# Altium schematic symbol library pwr_switching_buck_lowEMI.SchLib: 14 symbols
Pins are listed as number, name and electrical type; pins without a type are passive.

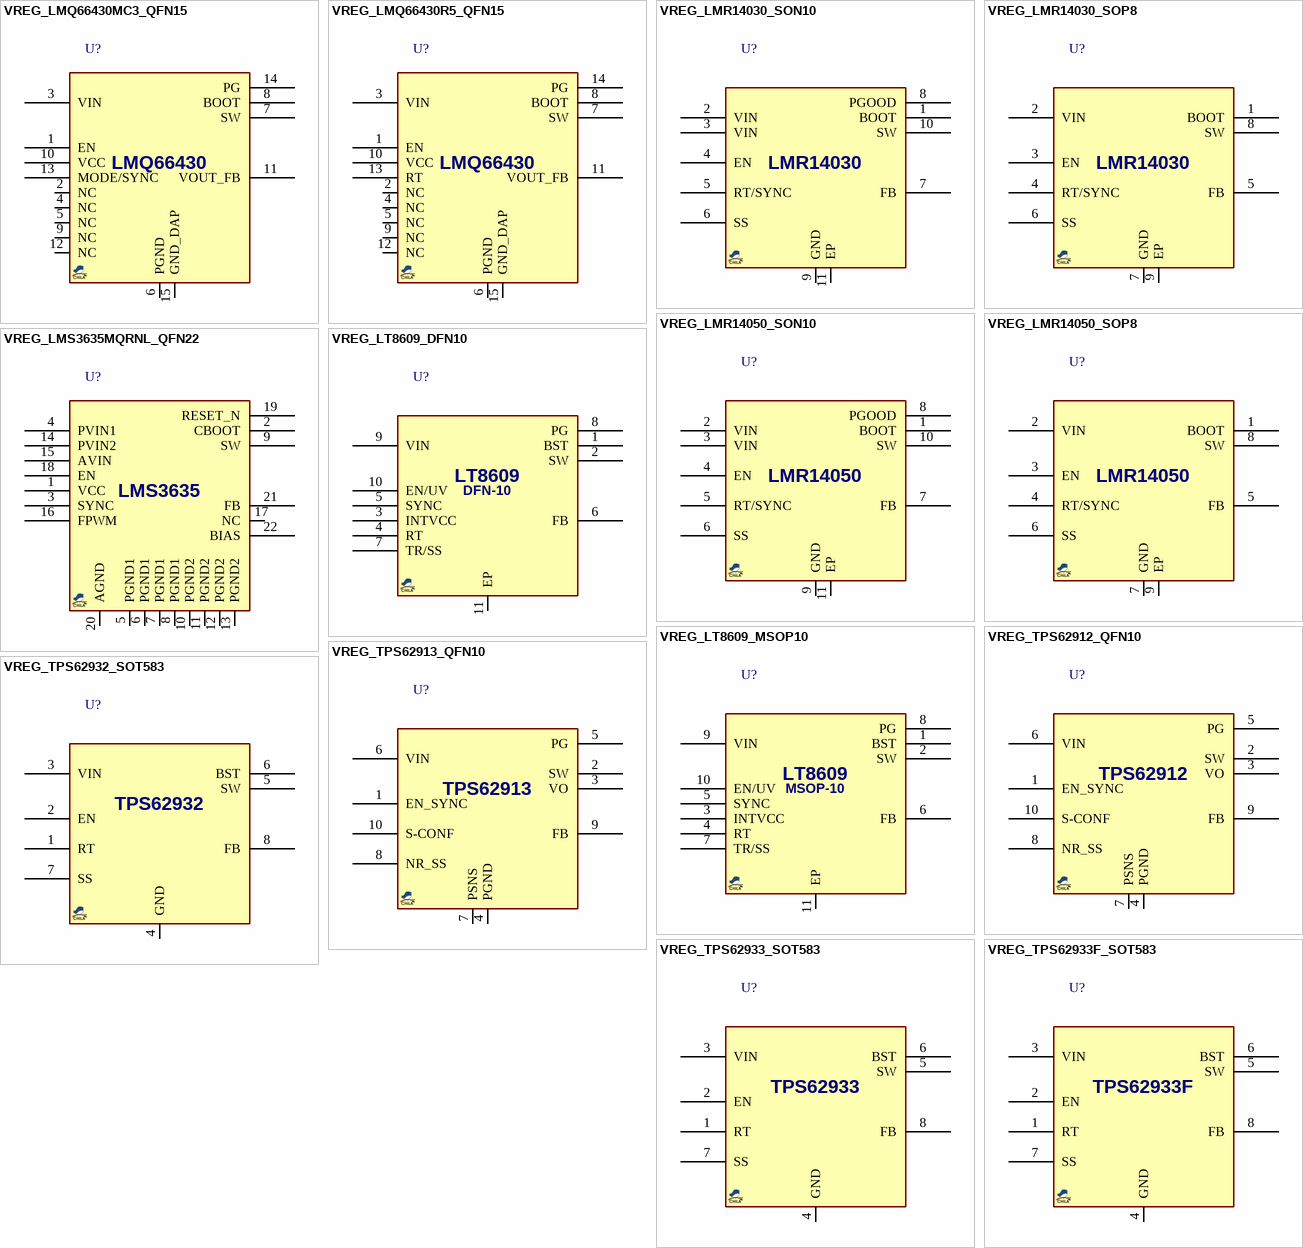
[diagram p0: symbols VREG_LMQ66430MC3_QFN15 to VREG_TPS62933F_SOT583]

## VREG_LMQ66430MC3_QFN15
designator U?, comment LMQ66430  (value not drawn)
REG, Switching, Buck, 3.6~36Vin, 3A, RXB-15; MANF: Texas Instruments; PARAM: 3A, 2MHz; PARAM2: 3.6~36VIN,1~18Vout; MANF_P#: LMQ66430MC3RXBRQ1; PRICE: 4$; ASSEMBLY: ASSEMBLY; VALUE: LMQ66430; PACKAGE: QFN-15 RXB
footprint QFN50_15_RXB (VQFN-FCRLF RXB, 2.6X2.6X1mm)
pins: 1 EN, 2 NC, 3 VIN, 4 NC, 5 NC, 6 PGND, 7 SW, 8 BOOT, 9 NC, 10 VCC, 11 VOUT_FB, 12 NC, 13 MODE/SYNC, 14 PG, 15 GND_DAP

## VREG_LMQ66430R5_QFN15
designator U?, comment LMQ66430  (value not drawn)
REG, Switching, Buck, 3.6~36Vin, 3A, RXB-15; MANF: Texas Instruments; PARAM: 3A, 0.2~2.2MHz; PARAM2: 3.6~36VIN,1~18Vout; MANF_P#: LMQ66430R5RXB; PRICE: 5$; ASSEMBLY: ASSEMBLY; VALUE: LMQ66430; PACKAGE: QFN-15 RXB
footprint QFN50_15_RXB (VQFN-FCRLF RXB, 2.6X2.6X1mm)
pins: 1 EN, 2 NC, 3 VIN, 4 NC, 5 NC, 6 PGND, 7 SW, 8 BOOT, 9 NC, 10 VCC, 11 VOUT_FB, 12 NC, 13 RT, 14 PG, 15 GND_DAP

## VREG_LMR14030_SON10
designator U?, comment LMR14030  (value not drawn)
REG, Switching, Buck, 4~40Vin, 3.5A, WSON-8; MANF: Texas Instruments; PARAM: 3.5A, 0.2~2.5MHz; PARAM2: 4~40VIN, 0.8~28Vout; MANF_P#: LMR14030SQDPR; PRICE: 0.6$; ASSEMBLY: ASSEMBLY; VALUE: LMR14030; PACKAGE: WSON-10
footprint SON80_10T_4040 (DPR WSON10, 10-Leads, 4x4mm, Pitch 0.80mm)
pins: 1 BOOT, 2 VIN, 3 VIN, 4 EN, 5 RT/SYNC, 6 SS, 7 FB, 8 PGOOD, 9 GND, 10 SW, 11 EP

## VREG_LMR14030_SOP8
designator U?, comment LMR14030  (value not drawn)
REG, Switching, Buck, 4~40Vin, 3.5A, HSOIC-8; MANF: Texas Instruments; PARAM: 3.5A, 0.2~2.5MHz; PARAM2: 4~40VIN, 0.8~28Vout; MANF_P#: LMR14030SDDA; PRICE: 0.6$; ASSEMBLY: ASSEMBLY; VALUE: LMR14030; PACKAGE: SOP-8 (HSOIC-8)
footprint SO_8T (SOP-8, 5x3.9mm body 1.27mm pitch, DDA, SO PowerPAD)
pins: 1 BOOT, 2 VIN, 3 EN, 4 RT/SYNC, 5 FB, 6 SS, 7 GND, 8 SW, 9 EP

## VREG_LMR14050_SON10
designator U?, comment LMR14050  (value not drawn)
REG, Switching, Buck, 4~40Vin, 5A, WSON-8; MANF: Texas Instruments; PARAM: 5A, 0.2~2.5MHz; PARAM2: 4~40VIN, 0.8~28Vout; MANF_P#: LMR14050SQDPR; PRICE: 0.6$; ASSEMBLY: ASSEMBLY; VALUE: LMR14050; PACKAGE: WSON-10
footprint SON80_10T_4040 (DPR WSON10, 10-Leads, 4x4mm, Pitch 0.80mm)
pins: 1 BOOT, 2 VIN, 3 VIN, 4 EN, 5 RT/SYNC, 6 SS, 7 FB, 8 PGOOD, 9 GND, 10 SW, 11 EP

## VREG_LMR14050_SOP8
designator U?, comment LMR14050  (value not drawn)
REG, Switching, Buck, 4~40Vin, 5A, HSOIC-8; MANF: Texas Instruments; PARAM: 5A, 0.2~2.5MHz; PARAM2: 4~40VIN, 0.8~28Vout; MANF_P#: LMR14050SDDA; PRICE: 0.6$; ASSEMBLY: ASSEMBLY; VALUE: LMR14050; PACKAGE: SOP-8 (HSOIC-8)
footprint SO_8T (SOP-8, 5x3.9mm body 1.27mm pitch, DDA, SO PowerPAD)
pins: 1 BOOT, 2 VIN, 3 EN, 4 RT/SYNC, 5 FB, 6 SS, 7 GND, 8 SW, 9 EP

## VREG_LMS3635MQRNL_QFN22
designator U?, comment LMS3635  (value not drawn)
REG, Switching, Buck, 3.9~36Vin, 3.5A, RNL-22; MANF: Texas Instruments; PARAM: 3.5A, 0.4MHz; PARAM2: 3.9~36VIN,1~20Vout; MANF_P#: LMS3635MQRNL; PRICE: 5$; ASSEMBLY: ASSEMBLY; VALUE: LMS3635; PACKAGE: QFN-22 RNL
footprint QFNHR_22_RNL (VQFN-HR22, RNL, 5X4X0.9mm)
pins: 1 VCC, 2 CBOOT, 3 SYNC, 4 PVIN1, 5 PGND1, 6 PGND1, 7 PGND1, 8 PGND1, 9 SW, 10 PGND2, 11 PGND2, 12 PGND2, 13 PGND2, 14 PVIN2, 15 AVIN, 16 FPWM, 17 NC, 18 EN, 19 RESET_N, 20 AGND, 21 FB, 22 BIAS

## VREG_LT8609_DFN10
designator U?, comment LT8609  (value not drawn)
REG, Switching, Buck, 3~42Vin, 3A, DFN-10; MANF: Analog Devices; PARAM: 3A, 0.2~2.2MHz; MANF_P#: LT8609AEDDM; PRICE: 2$; PARAM2: 3~42VIN; ASSEMBLY: ASSEMBLY; VALUE: LT8609; PACKAGE: DFN-10 DDM
footprint SON50_10T_3030 (DRC SON, 10 TDFN, 3X3mm, Pitch: 0.5mm with thermal pad)
pins: 1 BST, 2 SW, 3 INTVCC, 4 RT, 5 SYNC, 6 FB, 7 TR/SS, 8 PG, 9 VIN, 10 EN/UV, 11 EP
text: DFN-10

## VREG_LT8609_MSOP10
designator U?, comment LT8609  (value not drawn)
REG, Switching, Buck, 3~42Vin, 3A, MSOP-10; MANF: Analog Devices; PARAM: 3A, 0.2~2.2MHz; MANF_P#: LT8609EMSE; PRICE: 2$; PARAM2: 3~42VIN; ASSEMBLY: ASSEMBLY; VALUE: LT8609; PACKAGE: MSOP-10
footprint SOG50_10T (MSSOP10, MSOP10, DGQ, 3X3mm 0.5mm pitch)
pins: 1 BST, 2 SW, 3 INTVCC, 4 RT, 5 SYNC, 6 FB, 7 TR/SS, 8 PG, 9 VIN, 10 EN/UV, 11 EP

## VREG_TPS62912_QFN10
designator U?, comment TPS62912  (value not drawn)
REG, Switching, Buck, 3~17Vin, 2A, QFN-10; MANF: Texas Instruments; PARAM: 2A, 2.2MHz; PARAM2: 3~17VIN, 0.8~5.5Vout; MANF_P#: TPS62912RPU; PRICE: 0.6$; ASSEMBLY: ASSEMBLY; VALUE: TPS62912; PACKAGE: QFN-10 RPU
footprint QFN50_10_2020_RPU (VQFNHR-10, RPU, 0.5mm pitch, 2x2x1mm)
pins: 1 EN_SYNC, 2 SW, 3 VO, 4 PGND, 5 PG, 6 VIN, 7 PSNS, 8 NR_SS, 9 FB, 10 S-CONF

## VREG_TPS62913_QFN10
designator U?, comment TPS62913  (value not drawn)
REG, Switching, Buck, 3~17Vin, 3A, QFN-10; MANF: Texas Instruments; PARAM: 3A, 2.2MHz; PARAM2: 3~17VIN, 0.8~5.5Vout; MANF_P#: TPS62913RPU; PRICE: 0.6$; ASSEMBLY: ASSEMBLY; VALUE: TPS62913; PACKAGE: QFN-10 RPU
footprint QFN50_10_2020_RPU (VQFNHR-10, RPU, 0.5mm pitch, 2x2x1mm)
pins: 1 EN_SYNC, 2 SW, 3 VO, 4 PGND, 5 PG, 6 VIN, 7 PSNS, 8 NR_SS, 9 FB, 10 S-CONF

## VREG_TPS62932_SOT583
designator U?, comment TPS62932  (value not drawn)
REG, Switching, Buck, 3.8~30Vin, 2A, SOT-583; MANF: Texas Instruments; PARAM: 2A, 0.2~2.2MHz; PARAM2: 3.8~30VIN, 0.8~22Vout; MANF_P#: TPS62932DRL; PRICE: 0.3$; ASSEMBLY: ASSEMBLY; VALUE: TPS62932; PACKAGE: SOT-583-8 DRL
footprint SOT583_8 (Footprint not found)
pins: 1 RT, 2 EN, 3 VIN, 4 GND, 5 SW, 6 BST, 7 SS, 8 FB

## VREG_TPS62933_SOT583
designator U?, comment TPS62933  (value not drawn)
REG, Switching, Buck, 3.8~30Vin, 3A, SOT-583; MANF: Texas Instruments; PARAM: 3A, 0.2~2.2MHz; PARAM2: 3.8~30VIN, 0.8~22Vout; MANF_P#: TPS62933DRL; PRICE: 0.3$; ASSEMBLY: ASSEMBLY; VALUE: TPS62933; PACKAGE: SOT-583-8 DRL
footprint SOT583_8 (Footprint not found)
pins: 1 RT, 2 EN, 3 VIN, 4 GND, 5 SW, 6 BST, 7 SS, 8 FB

## VREG_TPS62933F_SOT583
designator U?, comment TPS62933F  (value not drawn)
REG, Switching, Buck, 3.8~30Vin, 3A, SOT-583, FCCM; MANF: Texas Instruments; PARAM: 3A, 0.2~2.2MHz with FCCM; PARAM2: 3.8~30VIN, 0.8~22Vout; MANF_P#: TPS62933FDRL; PRICE: 0.3$; ASSEMBLY: ASSEMBLY; VALUE: TPS62933F; PACKAGE: SOT-583-8 DRL
footprint SOT583_8 (Footprint not found)
pins: 1 RT, 2 EN, 3 VIN, 4 GND, 5 SW, 6 BST, 7 SS, 8 FB